# Altium footprint library FOC-PMSM1.PcbLib: 24 footprints (part 1 of 2)
Each footprint in its own frame and in the unit in brackets; x right, y up, seen from the top. Pads: shape width x height; smd on the part's side, far side on the other; paste and mask are expansions set on the pad; w line width, h text height; cw(c..) or ccw(c..) is an arc to the next point about the centre after c.
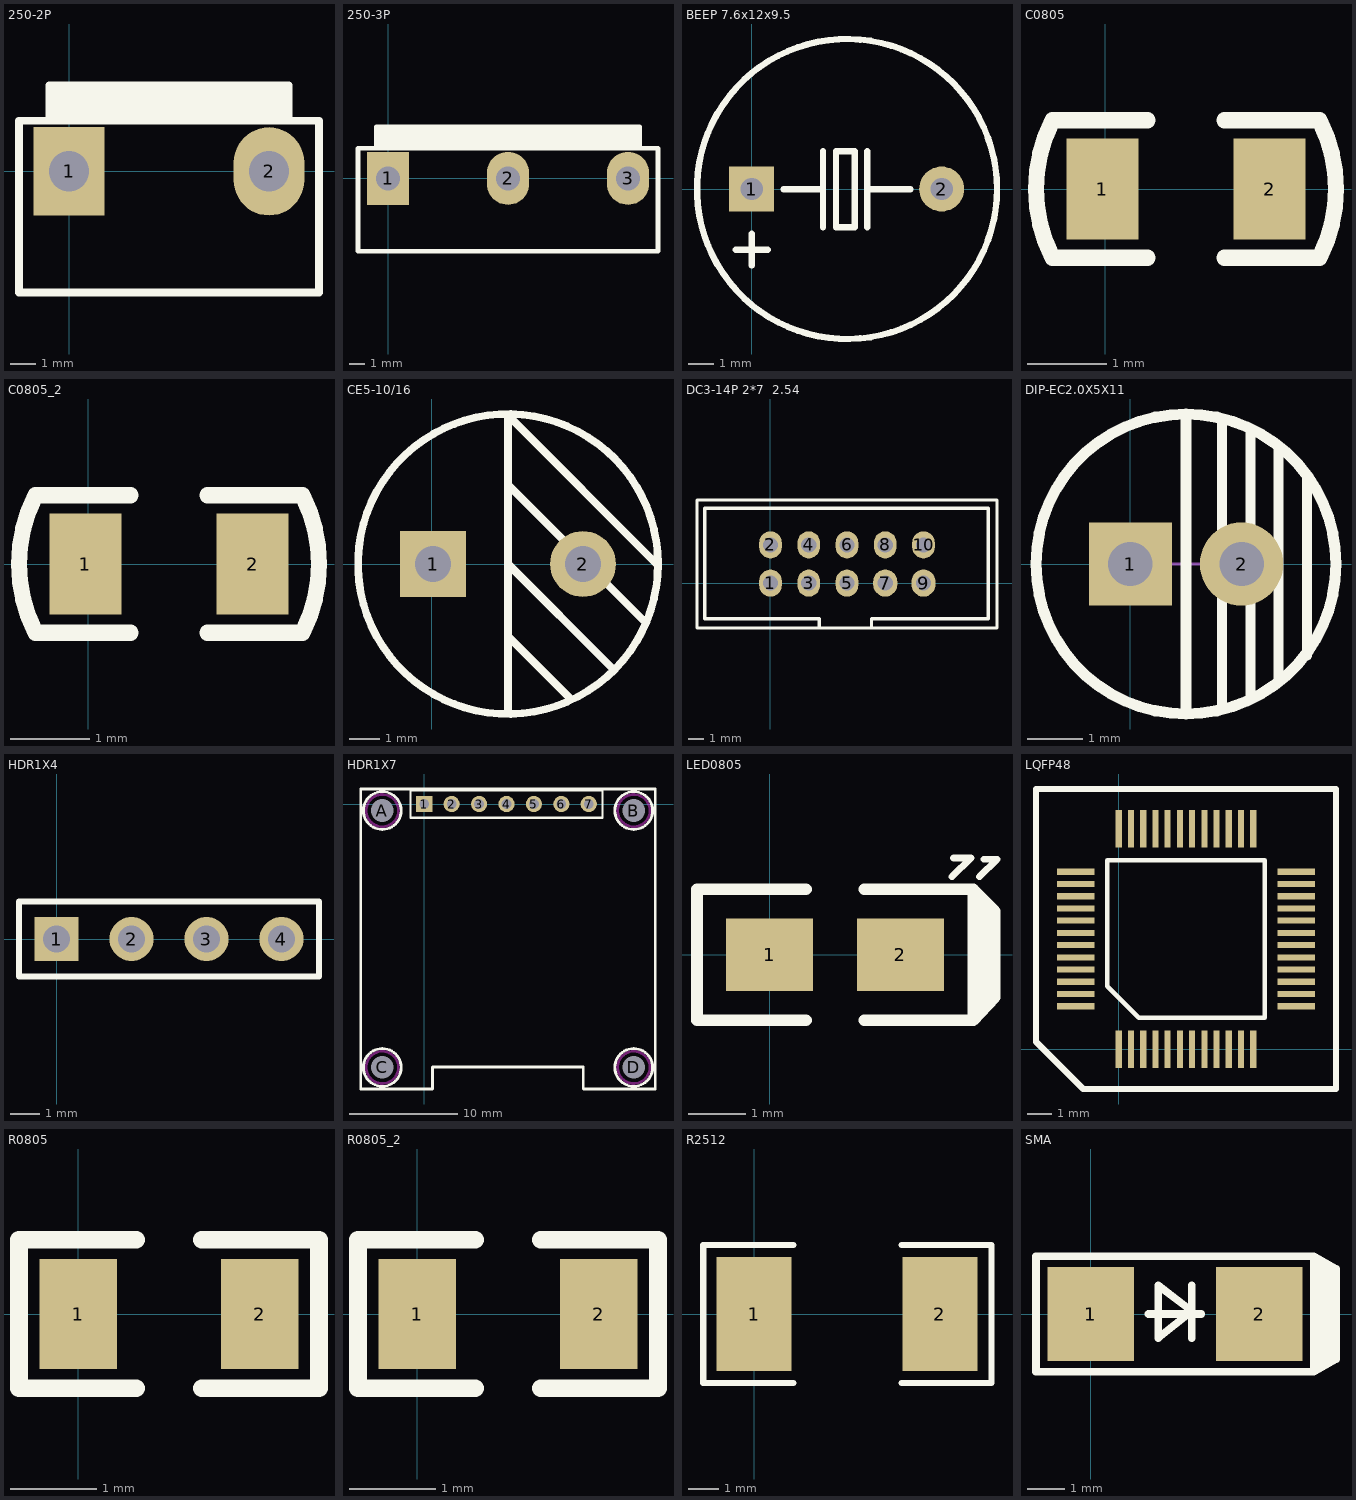
[diagram p0: the footprints below, top view; thin cyan lines are the x and y axes]

## 250-2P [mm]
pads (2):
  rect 2.8x3.5 hole 1.6: 1(0,0)
  oval 2.8x3.5 hole 1.6: 2(7.92,0)
Top Overlay:
  lines w0.3: -0.78,2 -0.78,3.4 8.7,3.4 8.7,2 ; -0.78,2.286 8.7,2.286 ; -0.78,2.413 8.7,2.413 ; -0.78,2.667 8.7,2.667 ; -0.78,2.921 8.7,2.921 ; -0.78,3.175 8.7,3.175 ; -1.98,-4.8 -1.98,2 9.9,2 9.9,-4.8 -1.98,-4.8
3D body "5-3.stp": height 14.6, standoff -3.6, extent -1.978,-4.92 9.902,3.48

## 250-3P [mm]
pads (3):
  rect 2.8x3.5 hole 1.6: 1(0,0)
  oval 2.8x3.5 hole 1.6: 2(7.92,0) 3(15.84,0)
Top Overlay:
  lines w0.3: -0.78,2 -0.78,3.4 16.62,3.4 16.62,2 ; -0.78,2.159 16.62,2.159 ; -0.78,2.413 16.62,2.413 ; -0.78,2.667 16.62,2.667 ; -0.78,2.921 16.62,2.921 ; -0.78,3.175 16.62,3.175 ; -1.98,-4.8 -1.98,2 17.82,2 17.82,-4.8 -1.98,-4.8
3D body "3.stp": height 14.6, standoff -3.6, extent -1.956,-4.911 17.844,3.489

## BEEP 7.6x12x9.5 [mm]
pads (2):
  rect 1.8x1.8 hole 0.9: 1(0,0)
  round 1.8 hole 0.9: 2(7.6,0)
Top Overlay:
  circle w0.254: c3.811,0 r6.001
  lines w0.254: -0.634,-2.424 0.636,-2.424 ; 0.001,-3.059 0.001,-1.789 ; 1.271,-0.011 2.848,-0.011 ; 2.848,-1.535 2.848,1.513 ; 4.623,-1.535 4.623,1.513 ; 4.623,-0.011 6.351,-0.011 ; 3.373,-1.535 4.123,-1.535 4.123,1.513 3.373,1.513 3.373,-1.535
3D body "BEEP 7.6x12x9.5.STEP": height 9.55, standoff -3.25, extent -2.19,-5.969 9.81,6.031

## C0805 [mm]
pads (2):
  rect 0.9x1.27 smd mask+0.051: 1(-0.034,0) 2(2.066,0)
Top Overlay:
  lines w0.203: 0.533,-0.864 -0.66,-0.864 cw(c1.016,0) -0.661,0.864 0.533,0.864 ; 1.499,-0.864 2.692,-0.864 ccw(c1.016,0) 2.693,0.864 1.499,0.864
3D body "rnd_150-0805b101k101nt.stp": height 1.25, standoff 0, extent 0.066,-0.625 2.066,0.625

## C0805_2 [mm]
pads (2):
  rect 0.9x1.27 smd mask+0.051: 1(-0.034,0) 2(2.066,0)
Top Overlay:
  lines w0.203: 0.533,-0.864 -0.66,-0.864 cw(c1.016,0) -0.661,0.864 0.533,0.864 ; 1.499,-0.864 2.692,-0.864 ccw(c1.016,0) 2.693,0.864 1.499,0.864
3D body "rnd_150-0805b101k101nt.stp": height 1.25, standoff 0, extent 0.066,-0.625 2.066,0.625

## CE5-10/16 [mm]
pads (2):
  rect 2.2x2.2 hole 1.2: 1(0.04,0)
  round 2.2 hole 1.2: 2(5.04,0)
Top Overlay:
  circle w0.254: c2.54,0 r5
  lines w0.254: 2.54,-4.953 2.54,0 ; 2.54,-2.413 4.623,-4.496 ; 2.54,2.642 7.087,-1.905 ; 6.02,-3.48 2.54,0 ; 7.518,-0.025 2.54,4.953 2.54,0
3D body "CAP 5.0X10X16.STEP": height 16.04, standoff -3.37, extent -2.414,-4.942 7.596,5.055

## DC3-14P 2*7  2.54 [mm]
pads (10):
  oval 1.5x1.8 hole 1: 1(0.009,0.003) 2(0.009,2.543) 3(2.549,0.003) 4(2.549,2.543) 5(5.089,0.003) 6(5.089,2.543) 8(7.629,2.543) 10(10.169,2.543)
  oval 1.6x1.8 hole 1: 7(7.629,0.003) 9(10.169,0.003)
Top Overlay:
  lines w0.23: 3.26,-2.977 3.26,-2.368 -4.36,-2.368 -4.36,-0.056 -4.36,4.973 14.461,4.973 14.461,-2.368 6.714,-2.368 6.714,-2.977 ; -4.871,-2.977 15.049,-2.977 15.049,5.523 -4.871,5.523 -4.871,-2.977
3D body "User Library-BoxHeader_2R5W_254P_00D.STEP": height 9.1, standoff -3.1, extent -5.22,-3.091 15.379,5.709

## DIP-EC2.0X5X11 [mm]
pads (2):
  rect 1.5x1.5 hole 0.8: 1(0,0)
  round 1.5 hole 0.8: 2(2,0)
Top Overlay:
  circle w0.2: c1,0 r2.7
  lines w0.178: 1.651,-2.54 1.651,2.54 ; 2.159,-2.413 2.159,2.413 ; 2.667,-2.032 2.667,2.032 ; 3.175,-1.651 3.175,1.524
  lines w0.2: 1,-2.667 1,-2 1,2.667
Mechanical 15:
  lines w0.05: 0.5,0 1.5,0
3D body "CAP 2.0X5X11.STEP": height 11.04, standoff -3.42, extent -1.524,-2.5 3.486,2.5

## HDR1X4 [mm] "Connector; Header; 4 Position"
pads (4):
  rect 1.5x1.5 hole 0.9: 1(0,0)
  round 1.5 hole 0.9: 2(2.54,0) 3(5.08,0) 4(7.62,0)
Top Overlay:
  lines w0.2: -1.27,-1.27 -1.27,1.27 8.89,1.27 8.89,-1.27 -1.27,-1.27
3D body "User Library-Bluetouth module HC 06.STEP": height 45, standoff 0.9, extent -4.114,-8.23 11.886,0.27
3D body "Female-Header-2.54-Single-4.stp": height 8.5, standoff -3.2, extent -1.395,-1.326 9.015,1.174

## HDR1X7 [mm] "Connector; Header; 7 Position"
pads (11):
  rect 1.5x1.5 hole 0.9: 1(0,0)
  round 1.5 hole 0.9: 2(2.54,0) 3(5.08,0) 4(7.62,0) 5(10.16,0) 6(12.7,0) 7(15.24,0)
  round 2 hole 2.1: A(-3.892,-0.609) B(19.408,-0.609) C(-3.892,-24.409) D(19.408,-24.409)
Top Overlay:
  circle w0.254: c-3.892,-0.609 r1.75
  circle w0.254: c-3.892,-24.409 r1.75
  circle w0.254: c19.408,-24.409 r1.75
  circle w0.254: c19.408,-0.609 r1.75
  lines w0.2: -1.27,-1.27 16.51,-1.27 16.51,1.27 -1.27,1.27 -1.27,-1.27
  lines w0.254: -5.892,-26.409 -5.892,1.391 21.408,1.391 21.408,-26.409 14.758,-26.409 14.728,-26.379 14.728,-24.377 0.758,-24.377 0.758,-26.409 -5.892,-26.409
Keep-Out Layer:
  circle w0.254: c-3.892,-0.609 r1.496
  circle w0.254: c19.408,-0.609 r1.496
  circle w0.254: c19.408,-24.409 r1.496
  circle w0.254: c-3.892,-24.409 r1.496
3D body "Female-Header-2.54-Single-7.stp": height 2.7, standoff -9, extent -1.395,-1.25 16.635,1.25
3D body "OLED.stp": height 13.5, standoff 1.96, extent -6.02,-26.416 21.26,1.372

## LED0805 [mil]
pads (2):
  rect 60x50 smd mask+2: 1(0,0) 2(90,0)
Top Overlay:
  lines w4.72: 125.47,53.73 138.47,66.73 126.47,66.73 ; 144.47,53.73 156.47,65.73 147.47,65.73
  lines w8: 25,-45 -50,-45 -50,45 25,45 ; 65,-45 140,-45 ; 65,45 140,45 ; 140,40 147.2,32.8 147.2,-37.1 154.99,-29.31 ; 140,-45 140,45 ; 140,-45 154.99,-29.31 ; 140,45 154.99,30.01 154.99,-29.31
3D body "User Library-0805.STEP": height 31.89, standoff -0.39, extent 2.64,-24.6 81.38,24.61

## LQFP48 [mil]
pads (48):
  rect 10x60 smd: 1(0,0) 2(19.68,0) 3(39.37,0) 4(59.05,0) 5(78.74,0) 6(98.42,0) 7(118.11,0) 8(137.79,0) 9(157.48,0) 10(177.16,0) 11(196.85,0) 12(216.53,0) 25(216.53,354.33) 26(196.85,354.33) 27(177.16,354.33) 28(157.48,354.33) 29(137.79,354.33) 30(118.11,354.33) 31(98.42,354.33) 32(78.74,354.33) 33(59.05,354.33) 34(39.37,354.33) 35(19.68,354.33) 36(0,354.33)
  rect 60x10 smd: 13(285.43,68.9) 14(285.43,88.58) 15(285.43,108.27) 16(285.43,127.95) 17(285.43,147.64) 18(285.43,167.32) 19(285.43,187.01) 20(285.43,206.69) 21(285.43,226.38) 22(285.43,246.06) 23(285.43,265.75) 24(285.43,285.43) 37(-68.9,285.43) 38(-68.9,265.75) 39(-68.9,246.06) 40(-68.9,226.38) 41(-68.9,206.69) 42(-68.9,187.01) 43(-68.9,167.32) 44(-68.9,147.64) 45(-68.9,127.95) 46(-68.9,108.27) 47(-68.9,88.58) 48(-68.9,68.9)
Top Overlay:
  lines w7.87: -18.31,101.18 -18.31,303.74 234.84,303.74 234.84,50.59 32.28,50.59 -18.31,101.18
  lines w10: -132.9,11.9 -57,-64 349.43,-64 349.43,418.33 -132.9,418.33 -132.9,11.9
3D body "User Library-LQFP48.STEP": height 59.06, standoff 0, extent -70.16,-1.16 284.17,353.17

## R0805 [mm]
pads (2):
  rect 0.9x1.27 smd mask+0.051: 1(0,0) 2(2.1,0)
Top Overlay:
  lines w0.203: 0.67,-0.857 -0.685,-0.857 -0.685,0.857 0.67,0.857 ; 1.43,-0.857 2.785,-0.857 2.785,0.857 1.43,0.857
3D body "User Library-RES_2013-0805.STEP": height 0.76, standoff 0, extent -0.083,-0.675 2.217,0.675

## R0805_2 [mm]
pads (2):
  rect 0.9x1.27 smd mask+0.051: 1(0,0) 2(2.1,0)
Top Overlay:
  lines w0.203: 0.67,-0.857 -0.685,-0.857 -0.685,0.857 0.67,0.857 ; 1.43,-0.857 2.785,-0.857 2.785,0.857 1.43,0.857
3D body "User Library-RES_2013-0805.STEP": height 0.76, standoff 0, extent -0.083,-0.675 2.217,0.675

## R2512 [mm]
pads (2):
  rect 2.5x3.8 smd mask+0.051: 1(0,0) 2(6.196,0)
Top Overlay:
  lines w0.203: 1.307,-2.293 -1.693,-2.293 -1.693,2.307 1.307,2.307 ; 4.907,-2.293 7.907,-2.293 7.907,2.307 4.907,2.307
3D body "User Library-R2512-1.STEP": height 0.55, standoff 0, extent -0.302,-1.6 6.398,1.6

## SMA [mil]
pads (2):
  rect 90x98 smd mask+2: 1(0,0) 2(175,0)
Top Overlay:
  rectangle: 232,-40 255,40
  lines w8: 60,0 115,0 ; 105,-25 105,30 ; 232,-40 255,-40 ; 233,-47 255,-47 ; 240,-47 232,-55 232,-60 ; 255,40 232,40 239,47 ; 232,-60 255,-47 ; 232,-60 255,-47 ; 232,-60 232,60 ; 232,-60 -57,-60 -57,60 232,60 ; 232,-60 255,-47 ; 232,60 255,47 ; 232,60 232,54 239,47 ; 239,47 255,47 ; 255,-47 255,47 ; 70,-25 105,3 70,30 70,-25
3D body "User Library-DO-214AC SMA.STEP": height 94.59, standoff 0, extent -16.36,-51.18 188.37,51.18